# Altium schematic symbol library lib.SchLib: 24 symbols
Pins are listed as number, name and electrical type; pins without a type are passive.

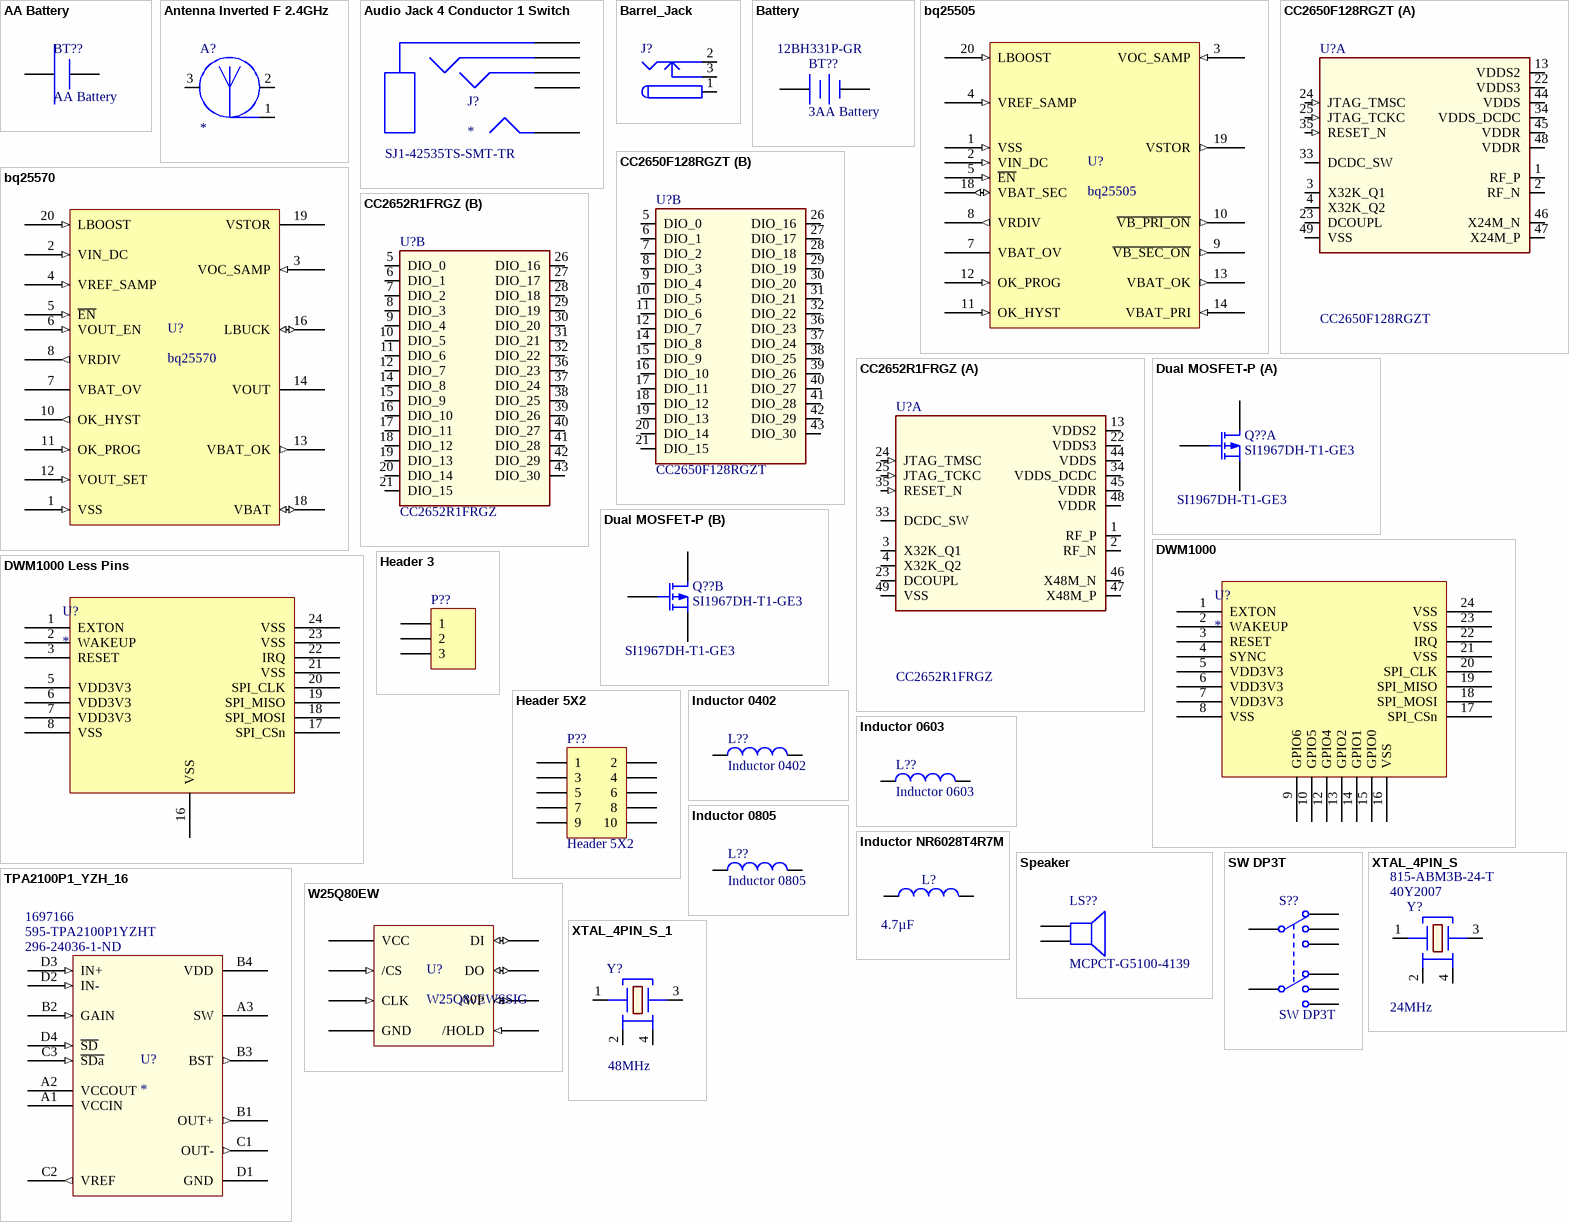
[diagram p0: symbols AA Battery to XTAL_4PIN_S_1]

## AA Battery
designator BT??
AA Battery with New Age Enclosures Clips; Published: 24-Mar-1999; LatestRevisionDate: 17-Jul-2002; LatestRevisionNote: Re-released for DXP Platform.; PackageReference: BAT-2; Publisher: Altium Limited; PackageDescription: Battery; 2 Leads; Supplier 1: Mouser; Supplier 2: Mouser; Supplier Part Number 1: 789-ACC-AAPOS-5223; Supplier Part Number 2: 789-ACC-AANEG-5201
footprint AA Battery New Age Enclosures (AA Battery with New Age Enclosures Clips)
pins: 1 +, 2 -

## Antenna Inverted F 2.4GHz
designator A?
Designed by: Artur Bielinski; Design date: 2011-09-19
footprint ANTENNA_DN007AN
pins: 1 FEED_1, 2 GND_2, 3 GND_3

## Audio Jack 4 Conductor 1 Switch
designator J?  PartNumber: SJ1-42535TS-SMT-TR
Supplier 1: Mouser; Supplier 2: Digi-Key; Supplier Part Number 1: 490-SJ142535TSSMTTR; Supplier Part Number 2: CP1-42535TSSJCT-ND
footprint SJ1-4253X-SMT
pins: 1, 2, 3, 4, 5

## Barrel_Jack
designator J?  (value not drawn)
Low Voltage Power Supply Connector; PartNumber: PJ-002AH-SMT-TR; Published: 17-Dec-2003; DatasheetDocument: 09-May-2002; Publisher: Altium Limited; PlugDimensions: 2.1 x 5.5mm
signal-integrity model Connector
footprint PJ-002AH-SMT
pins: 1 (power), 2 (power), 3 (power)

## Battery
designator BT??, comment 3AA Battery  Supplier Part Number 1: 12BH331P-GR
Multicell Battery; Published: 24-Mar-1999; LatestRevisionDate: 17-Jul-2002; LatestRevisionNote: Re-released for DXP Platform.; PackageReference: BAT-2; Publisher: Altium Limited; PackageDescription: Battery; 2 Leads; Supplier 1: Mouser
footprint 12BH331P-GR (3AA Battery Holder)
pins: 1 +, 2 -

## bq25505
designator U?
bq25505 Energy Harvesting IC; Manufacturer: Texas Instruments; Supplier 1: Digi-Key; Supplier 2: Arrow; Supplier 3: Mouser; Supplier 4: Newark; Supplier Part Number 1: 296-37078-1-ND; Supplier Part Number 2: NELYhrW9Bi9CQqgSyO3FEeg0McQbIJc4833gzXhVDuY; Supplier Part Number 3: 595-BQ25505RGRR; Supplier Part Number 4: 19X9926; PartNumber: bq25505
footprint QFN20 (QFN, 20-Leads, Body 3.50x3.50mm, Pitch 0.50mm, Thermal Pad 2.05x2.05mm, IPC Medium Density)
pins: 1 VSS (in), 2 VIN_DC (in), 3 VOC_SAMP (in), 4 VREF_SAMP (in), 5 ~{EN} (in), 7 VBAT_OV, 8 VRDIV (out), 9 ~{VB_SEC_ON} (out), 10 ~{VB_PRI_ON} (out), 11 OK_HYST (in), 12 OK_PROG (in), 13 VBAT_OK (out), 14 VBAT_PRI (in), 15 VSS (power) hidden to 1, 18 VBAT_SEC (io), 19 VSTOR (out), 20 LBOOST (in), 21 PAD (power) hidden to 1

## bq25570
designator U?
bq25570 Energy Harvesting IC; Manufacturer: Texas Instruments; PartNumber: bq25570; Supplier 1: Newark; Supplier 2: Digi-Key; Supplier 3: Mouser; Supplier Part Number 1: 08X4194; Supplier Part Number 2: 296-39934-1-ND; Supplier Part Number 3: 595-BQ25570RGRR
footprint QFN20 (QFN, 20-Leads, Body 3.50x3.50mm, Pitch 0.50mm, Thermal Pad 2.05x2.05mm, IPC Medium Density)
pins: 1 VSS (in), 2 VIN_DC (in), 3 VOC_SAMP (in), 4 VREF_SAMP (in), 5 ~{EN} (in), 6 VOUT_EN (in), 7 VBAT_OV, 8 VRDIV (out), 9 NC hidden to 21, 10 OK_HYST (out), 11 OK_PROG (in), 12 VOUT_SET (in), 13 VBAT_OK (out), 14 VOUT (power), 15 VSS (power) hidden to 1, 16 LBUCK (io), 17 NC hidden to 21, 18 VBAT (io), 19 VSTOR (power), 20 LBOOST (in), 21 PAD (power) hidden to 1

## CC2650F128RGZT
designator U?
Designed_By: Artur Bielinski; SPLIT_INST: TRUE; SWAP_INFO: (S1+S2); Design_Date: 2013-02-14; PartNumber: CC2650F128RGZT; Supplier 1: Mouser; Supplier 2: Newark; Supplier 3: Arrow; Supplier 4: Digi-Key; Supplier Part Number 1: 595-CC2650F128RGZR; Supplier Part Number 2: 51Y5273; Supplier Part Number 3: tP0-S_ikkGau3GntdWAPvj-z4JJMLRcy006RExL3IaQ; Supplier Part Number 4: 296-39656-1-ND
footprint QFN50P700X700X100_HS-49N (QFN, 48-Leads, Body 7.00x7.00mm, Pitch 0.50mm, Thermal Pad 5.15x5.10mm, IPC Medium Density)
part A pins: 1 RF_P, 2 RF_N, 3 X32K_Q1, 4 X32K_Q2, 13 VDDS2 (power), 22 VDDS3 (power), 23 DCOUPL, 24 JTAG_TMSC (in), 25 JTAG_TCKC (in), 33 DCDC_SW (power), 34 VDDS_DCDC (power), 35 RESET_N (in), 44 VDDS (power), 45 VDDR (power), 46 X24M_N, 47 X24M_P, 48 VDDR (power), 49 VSS (power)
part B pins: 5 DIO_0 (io), 6 DIO_1 (io), 7 DIO_2 (io), 8 DIO_3 (io), 9 DIO_4 (io), 10 DIO_5 (io), 11 DIO_6 (io), 12 DIO_7 (io), 14 DIO_8 (io), 15 DIO_9 (io), 16 DIO_10 (io), 17 DIO_11 (io), 18 DIO_12 (io), 19 DIO_13 (io), 20 DIO_14 (io), 21 DIO_15 (io), 26 DIO_16 (io), 27 DIO_17 (io), 28 DIO_18 (io), 29 DIO_19 (io), 30 DIO_20 (io), 31 DIO_21 (io), 32 DIO_22 (io), 36 DIO_23 (io), 37 DIO_24 (io), 38 DIO_25 (io), 39 DIO_26 (io), 40 DIO_27 (io), 41 DIO_28 (io), 42 DIO_29 (io), 43 DIO_30 (io)

## CC2652R1FRGZ
designator U?
PartNumber: CC2650F128RGZT; Designed_By: Artur Bielinski; SPLIT_INST: TRUE; SWAP_INFO: (S1+S2); Design_Date: 2013-02-14
footprint QFN50P700X700X100_HS-49N (QFN, 48-Leads, Body 7.00x7.00mm, Pitch 0.50mm, Thermal Pad 5.15x5.10mm, IPC Medium Density)
part A pins: 1 RF_P, 2 RF_N, 3 X32K_Q1, 4 X32K_Q2, 13 VDDS2 (power), 22 VDDS3 (power), 23 DCOUPL, 24 JTAG_TMSC (in), 25 JTAG_TCKC (in), 33 DCDC_SW (power), 34 VDDS_DCDC (power), 35 RESET_N (in), 44 VDDS (power), 45 VDDR (power), 46 X48M_N, 47 X48M_P, 48 VDDR (power), 49 VSS (power)
part B pins: 5 DIO_0 (io), 6 DIO_1 (io), 7 DIO_2 (io), 8 DIO_3 (io), 9 DIO_4 (io), 10 DIO_5 (io), 11 DIO_6 (io), 12 DIO_7 (io), 14 DIO_8 (io), 15 DIO_9 (io), 16 DIO_10 (io), 17 DIO_11 (io), 18 DIO_12 (io), 19 DIO_13 (io), 20 DIO_14 (io), 21 DIO_15 (io), 26 DIO_16 (io), 27 DIO_17 (io), 28 DIO_18 (io), 29 DIO_19 (io), 30 DIO_20 (io), 31 DIO_21 (io), 32 DIO_22 (io), 36 DIO_23 (io), 37 DIO_24 (io), 38 DIO_25 (io), 39 DIO_26 (io), 40 DIO_27 (io), 41 DIO_28 (io), 42 DIO_29 (io), 43 DIO_30 (io)

## Dual MOSFET-P
designator Q??, comment SI1967DH-T1-GE3
Published: 8-Jun-2000; LatestRevisionDate: 17-Jul-2002; LatestRevisionNote: Re-released for DXP Platform.; PackageVersion: 1995/1996; PackageReference: E3; Publisher: Altium Limited; PackageDescription: TO, Flat Index; 3 In-Line, Axial Leads; Body Dia. 4.6mm; Lead Dia. 0.5 mm (max); Supplier 1: Newark; Supplier 2: Mouser; Supplier 3: Arrow; Supplier 4: Digi-Key; Supplier Part Number 1: 69W7182; Supplier Part Number 2: 781-SI1967DH-T1-GE3; Supplier Part Number 3: qozYoerHc1UG82g0-rnMprINS-8LkohdEEk3J2cXHwg; Supplier Part Number 4: SI1967DH-T1-GE3CT-ND; PartNumber: SI1967DH-T1-GE3
simulation model PMOS (MOSFET-P)
footprint SC-70 (TSOP, 6-Leads, Body 2.00x1.25mm, Pitch 0.65mm, IPC Medium Density)
part A pins: 1 S1, 2 G1, 6 D1
part B pins: 3 D2, 4 S2, 5 G2

## DWM1000
designator U?
MOD IEEE802.15.4-2011 UWB TXRX; Manufacturer: Decawave Limited; Manufacturer Part Number: DWM1000; Frequency: 3.5GHz ~ 6.5GHz; Data Rate: 6.8Mbps; Serial Interfaces: SPI; Antenna Type: Integrated, Chip; Voltage - Supply: 2.8 V ~ 3.6 V; Current - Receiving: 64mA; Current - Transmitting: 31mA; Supplier 1: Digi-Key; RoHS: RoHS Compliant; Category: RF/IF and RFID; Stock 1: 1028; Pricing 1: 1=32.16, 10=26.704, 100=24.24, 250=22.51296 (USD); Packaging: Cut Tape (CT); RF Family/Standard: 802.15.4; Protocol: -; Modulation: -; Power - Output: -; Sensitivity: -; Memory Size: -; Mounting Type: Surface Mount; Operating Temperature: -40°C ~ 85°C; Package / Case: Module; ComponentLink1URL: http://www.decawave.com/sites/default/files/product-pdf/dwm1000-product-brief.pdf; ComponentLink1Description: http://www.decawave.com/sites/default/files/product-pdf/dwm1000-product-brief.pdf; Supplier Part Number 1: 1479-1002-1-ND
footprint DWM1000
pins: 1 EXTON, 2 WAKEUP, 3 RESET, 4 SYNC, 5 VDD3V3, 6 VDD3V3, 7 VDD3V3, 8 VSS, 9 GPIO6, 10 GPIO5, 12 GPIO4, 13 GPIO2, 14 GPIO1, 15 GPIO0, 16 VSS, 17 SPI_CSn, 18 SPI_MOSI, 19 SPI_MISO, 20 SPI_CLK, 21 VSS, 22 IRQ, 23 VSS, 24 VSS

## DWM1000 Less Pins
designator U?
MOD IEEE802.15.4-2011 UWB TXRX; Manufacturer: Decawave Limited; Manufacturer Part Number: DWM1000; Frequency: 3.5GHz ~ 6.5GHz; Data Rate: 6.8Mbps; Serial Interfaces: SPI; Antenna Type: Integrated, Chip; Voltage - Supply: 2.8 V ~ 3.6 V; Current - Receiving: 64mA; Current - Transmitting: 31mA; Supplier 1: Digi-Key; RoHS: RoHS Compliant; Category: RF/IF and RFID; Stock 1: 1028; Pricing 1: 1=32.16, 10=26.704, 100=24.24, 250=22.51296 (USD); Packaging: Cut Tape (CT); RF Family/Standard: 802.15.4; Protocol: -; Modulation: -; Power - Output: -; Sensitivity: -; Memory Size: -; Mounting Type: Surface Mount; Operating Temperature: -40°C ~ 85°C; Package / Case: Module; ComponentLink1URL: http://www.decawave.com/sites/default/files/product-pdf/dwm1000-product-brief.pdf; ComponentLink1Description: http://www.decawave.com/sites/default/files/product-pdf/dwm1000-product-brief.pdf; Supplier Part Number 1: 1479-1002-1-ND
footprint DWM1000 Less Pins
pins: 1 EXTON, 2 WAKEUP, 3 RESET, 5 VDD3V3, 6 VDD3V3, 7 VDD3V3, 8 VSS, 16 VSS, 17 SPI_CSn, 18 SPI_MOSI, 19 SPI_MISO, 20 SPI_CLK, 21 VSS, 22 IRQ, 23 VSS, 24 VSS

## Header 3
designator P??  (value not drawn)
Header, 3-Pin; LatestRevisionDate: 17-Jul-2002; LatestRevisionNote: Re-released for DXP Platform.; Publisher: Altium Limited; Supplier 1: Newark; Supplier Part Number 1: 67R8664
signal-integrity model Connector
footprint Header 3 Pin 2.54mm SMD
pins: 1, 2, 3

## Header 5X2
designator P??
Header, 5-Pin, Dual row, Right Angle; LatestRevisionDate: 17-Jul-2002; LatestRevisionNote: Re-released for DXP Platform.; Publisher: Altium Limited; Supplier 1: Digi-Key; Supplier 2: Newark; Supplier 3: Allied; Supplier 4: Mouser; Supplier 5: Arrow; Supplier Part Number 1: 609-3695-1-ND; Supplier Part Number 2: 58R3188; Supplier Part Number 3: 70247660; Supplier Part Number 4: 649-202112100010C4LF; Supplier Part Number 5: XRQSqUttyxup-fqyNuPGZKBQalM97QjttTt_8zN-BzU
signal-integrity model Connector
footprint Header 1.27mm 2x5
pins: 1, 2, 3, 4, 5, 6, 7, 8, 9, 10

## Inductor 0402
designator L??
Inductance: 2.2 ÂµH; PackageDescription: SMD Inductor 0402
footprint CAPC0402(1005)60_L (Chip Capacitor, Body 1.0x0.5mm, Height 0.6mm, IPC High Density)
footprint CAPC0402(1005)60_M (Chip Capacitor, Body 1.0x0.5mm, Height 0.6mm, IPC Low Density)
footprint CAPC0402(1005)60_N (Chip Capacitor, Body 1.0x0.5mm, Height 0.6mm, IPC Medium Density)
pins: 1, 2

## Inductor 0603
designator L??
Inductance: 2.2 ÂµH; PackageDescription: SMD Inductor 0603
footprint CAPC0603(1608)100_L (Chip Capacitor, Body 1.6x0.8mm, Height 1.0mm, IPC High Density)
footprint CAPC0603(1608)100_M (Chip Capacitor, Body 1.6x0.8mm, Height 1.0mm, IPC Low Density)
footprint CAPC0603(1608)100_N (Chip Capacitor, Body 1.6x0.8mm, Height 1.0mm, IPC Medium Density)
pins: 1, 2

## Inductor 0805
designator L??
Inductance: 2.2 ÂµH; ComponentLink1URL: http://www.we-online.com; PackageReference: WE-TPC-3816-S; ComponentLink1Description: Manufacturer Link; PackageVersion: 2009; ComponentLink2URL: http://www.we-online.de/katalog/media/pdf/744031220.pdf; PackageDescription: SMD Inductor, 2-Leads, Body 3.8 x 3.8 mm; ComponentLink2Description: Datasheet; DatasheetVersion: ver 6, Jan-2009
footprint CAPC0805(2012)75_L (Chip Capacitor, Body 2.0x1.2mm, Height 0.75mm, IPC High Density)
footprint CAPC0805(2012)75_M (Chip Capacitor, Body 2.0x1.2mm, Height 0.75mm, IPC Low Density)
footprint CAPC0805(2012)75_N (Chip Capacitor, Body 2.0x1.2mm, Height 0.75mm, IPC Medium Density)
pins: 1, 2

## Inductor NR6028T4R7M
designator L?  Inductance: 4.7µF  (hidden comment: *)
Supplier 1: Newark; Supplier 2: Mouser; Supplier 3: Digi-Key; Supplier Part Number 1: 84R6441; Supplier Part Number 2: 963-NR6028T4R7M; Supplier Part Number 3: 587-2100-1-ND
footprint NR6028T4R7M
pins: 1, 2

## Speaker
designator LS??, comment MCPCT-G5100-4139
Loudspeaker; Published: 24-Mar-1999; LatestRevisionDate: 17-Jul-2002; LatestRevisionNote: Re-released for DXP Platform.; PackageReference: PIN2; Publisher: Altium Limited; Supplier 1: Newark; Supplier Part Number 1: 25R0959
footprint MCPCT-G5100-4139 (Piezo Speaker)
pins: 1, 2

## SW DP3T
designator S??
Switch; Published: 24-Mar-1999; LatestRevisionDate: 29-May-2009; LatestRevisionNote: IPC-7351 Footprint Added.; PackageVersion: Mar-2001; PackageReference: SOT23-6; Publisher: Altium Limited; PackageDescription: 6-Pin SOT-23 Package 0.95 mm Pitch, 2.7 mm Lead Span; Code_JEITA: SC-74; Code_IPC: SOT26A-6; Supplier 1: Mouser; Supplier 2: Digi-Key; Supplier 3: Octopart; Supplier Part Number 1: 612-EG2319; Supplier Part Number 2: EG2319-ND; Supplier Part Number 3: Master Electronics - EG2319
footprint DP3T Switch
pins: 1 NC1-1, 2 COMMON1, 3 NO1-1, 4 NO1-2, 5 NC2-1, 6 COMMON2, 7 NO2-1, 8 NO2-2

## TPA2100P1_YZH_16
designator U?  Supplier Part Number 1: 296-24036-1-ND  Supplier Part Number 2: 595-TPA2100P1YZHT  Supplier Part Number 3: 1697166
Imported; Manufacturer_Part_Number: tpa2100p1_yzh_16; GENERIC_PART_NUMBER: TPA2100P1; Vendor: Texas Instruments; PACKAGE_DESIGNATOR: YZH; PIN_COUNT: 16; FAMILY_NAME: CERAMIC/PIEZO SPEAKER; INDUSTRY_STD_PKG_TYPE: DSBGA; Datasheet URL: http://www.ti.com/lit/gpn/TPA2100P1; Manufacturer: Texas Instruments; RefDes: RefDes; Type: DEV; Value: Value; Supplier 1: Digi-Key; Supplier 2: Mouser; Supplier 3: Farnell
footprint BGA16 Least (BGA, 16-Leads, Body 2.17x2.22mmx0.63mm, Pitch 0.50mm)
pins: A1 VCCIN (power), A2 VCCOUT (power), A3 SW (power), A4 GND (power) hidden to D1, B1 OUT+ (out), B2 GAIN (in), B3 BST (out), B4 VDD (power), C1 OUT- (out), C2 VREF (out), C3 ~{SDa} (in), C4 GND (power) hidden to D1, D1 GND (power), D2 IN- (in), D3 IN+ (in), D4 ~{SD} (in)

## W25Q80EW
designator U?, comment W25Q80EWSSIG
Manufacturer: Winbond; Speed: 104MHz; Capacity: 8M; PartNumber: W25Q80EWSSIG; Supplier 1: Arrow; Supplier 2: Digi-Key; Supplier Part Number 2: W25Q80EWSSIG-ND
footprint SOIC127P600X175-8N (SOIC, 8-Leads, Body 4.90x3.90mm, Pitch 1.27mm, IPC Medium Density)
pins: 1 /CS (in), 2 DO (io), 3 /WP (io), 4 GND (power), 5 DI (io), 6 CLK (in), 7 /HOLD (in), 8 VCC (power)

## XTAL_4PIN_S
designator Y?, comment Frequency: 24MHz  Supplier Part Number 1: 40Y2007  Supplier Part Number 2: 815-ABM3B-24-T  Supplier Part Number 3: 0wH_k9pcpvqMxqxWUewidbYUYr_vX-llJktfqYRDSYqxMh47ZnFuknqWz59S4zZ2  Supplier Part Number 4: 300-8216-1-ND  (hidden comment: ABM3B-24.000MHZ-10-1-U-T)
Crystal 24MHz; PartNumber: ABM3B-24.000MHZ-10-1-U-T; Supplier 1: Newark; Supplier 2: Mouser; Supplier 3: Arrow; Supplier 4: Digi-Key
footprint Crystal 4-SMD 5.0x3.2mm
pins: 1, 2 (power), 3, 4 (power)

## XTAL_4PIN_S_1
designator Y?, comment Frequency: 48MHz  (hidden comment: CX2016DB48000C0FPLC1)
Crystal 48MHz; PartNumber: ABM3B-24.000MHZ-10-1-U-T; Supplier 1: Digi-Key; Supplier 2: Mouser; Supplier Part Number 1: 1253-2042-1-ND; Supplier Part Number 2: 581-CX2016DB48CFPLC1
footprint Crystal 4-SMD 2.0MMx1.6MM (CX2016DB)
pins: 1, 2 (power), 3, 4 (power)